# Altium footprint library PCB - MICROPHONE - KNOWLES SPU0410HR5H-PB.PcbLib: 1 footprints
Each footprint in its own frame and in the unit in brackets; x right, y up, seen from the top. Pads: shape width x height; smd on the part's side, far side on the other; paste and mask are expansions set on the pad; w line width, h text height; cw(c..) or ccw(c..) is an arc to the next point about the centre after c.
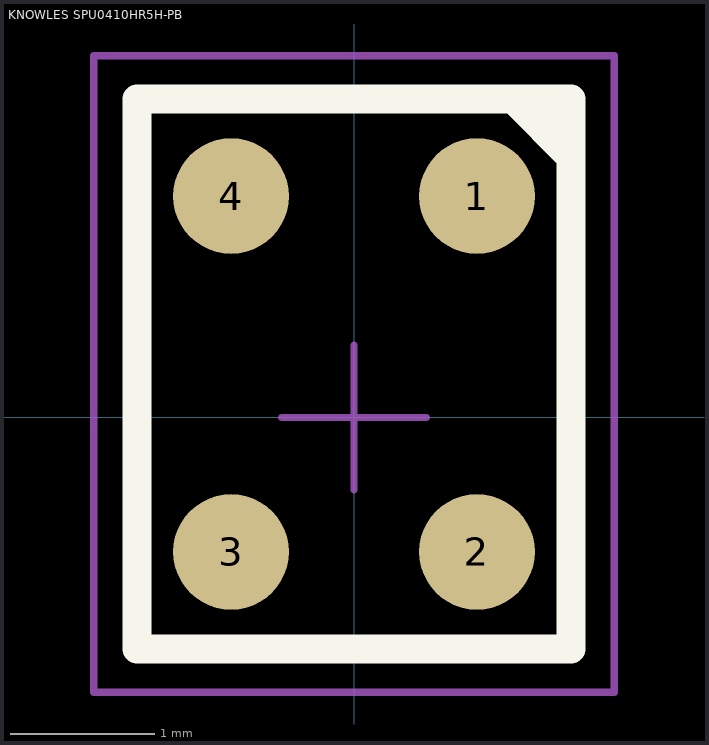
[diagram p0: the footprint, top view; thin cyan lines are the x and y axes]

## KNOWLES SPU0410HR5H-PB [mm] "SiSonicTM Microphone 2.95x3.76mm"
height 1.2
pads (4):
  round 0.8 smd: 1(0.85,1.53) 2(0.85,-0.93) 3(-0.85,-0.93) 4(-0.85,1.53)
Top Overlay:
  region: 1.1,2.2 1.5,2.2 1.5,1.8
  lines w0.2: 1.1,2.2 1.5,1.8 ; -1.5,-1.6 -1.5,2.2 1.5,2.2 1.5,-1.6 -1.5,-1.6
Mechanical 13:
  lines w0.1: -1.475,-1.58 -1.475,2.18 1.475,2.18 1.475,-1.58 -1.475,-1.58
Mechanical 15:
  lines w0.05: -0.5,0 0.5,0 ; 0,-0.5 0,0.5 ; -1.8,-1.9 -1.8,2.5 1.8,2.5 1.8,-1.9 -1.8,-1.9
3D body "Knowles - SPU0410HR5H-PB.step": height 1.2, standoff 0, extent -1.475,-1.58 1.475,2.18